# EAGLE library part AD9957 (library analog-devices)
AD9957 edit this description Auto generated by make-symbol-device-package-bsdl.ulp Rev. 44 Source: AD9957.txt
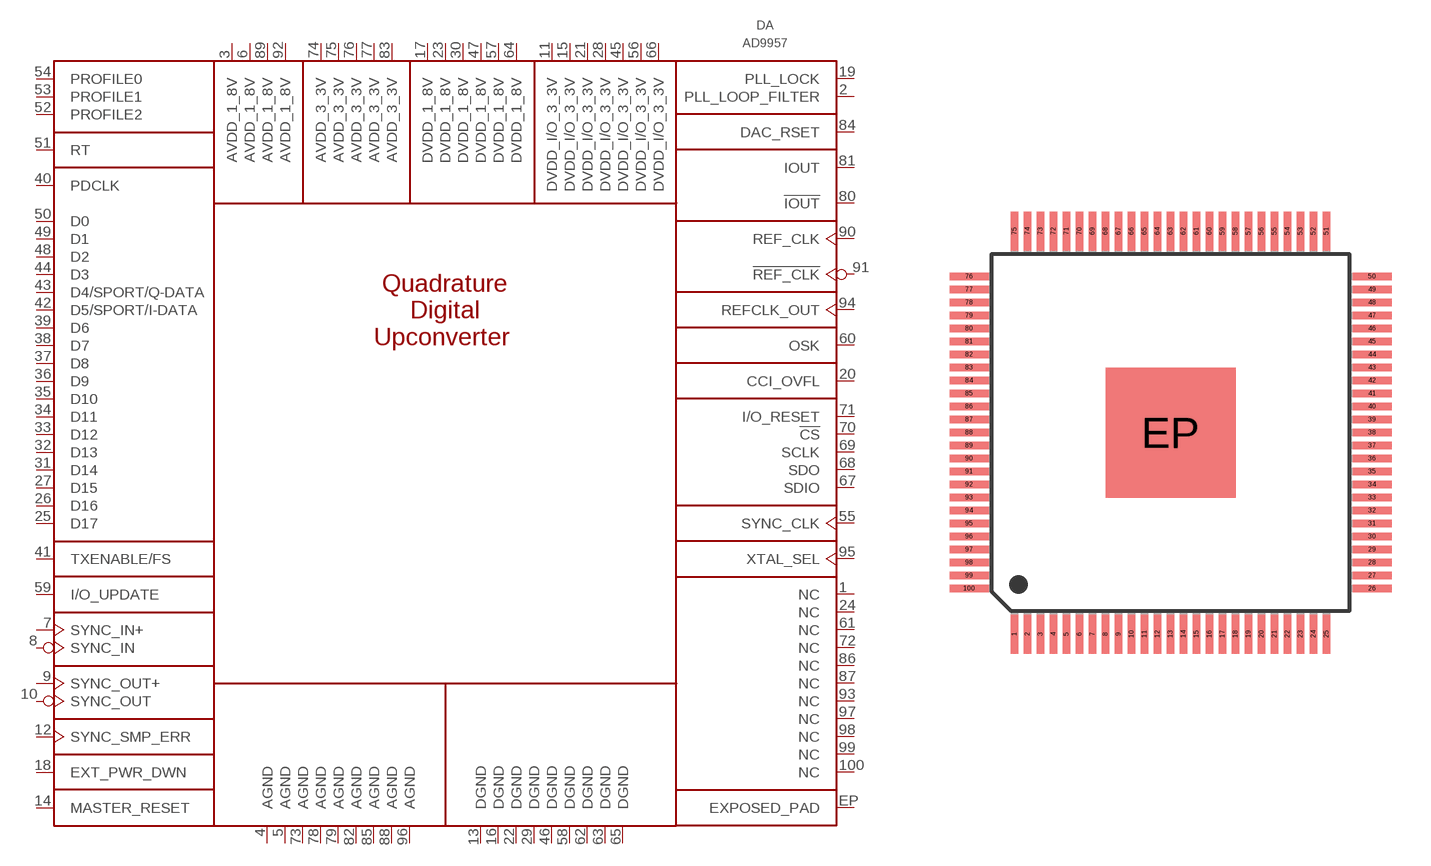
[diagram p28: symbol with the pads of TQFP100; footprint TQFP100]

Designator prefix DA

## AD9957BSVZ  [TQFP100]
1  NC  nc
2  PLL_LOOP_FILTER  in
3  AVDD_1_8V  pwr
4  AGND  pwr
5  AGND  pwr
6  AVDD_1_8V  pwr
7  SYNC_IN+  in
8  SYNC_IN  in
9  SYNC_OUT+  out
10  SYNC_OUT  out
11  DVDD_I/O_3_3V  pwr
12  SYNC_SMP_ERR  out
13  DGND  pwr
14  MASTER_RESET  in
15  DVDD_I/O_3_3V  pwr
16  DGND  pwr
17  DVDD_1_8V  pwr
18  EXT_PWR_DWN  in
19  PLL_LOCK  out
20  CCI_OVFL  out
21  DVDD_I/O_3_3V  pwr
22  DGND  pwr
23  DVDD_1_8V  pwr
24  NC  nc
25  D17
26  D16
27  D15
28  DVDD_I/O_3_3V  pwr
29  DGND  pwr
30  DVDD_1_8V  pwr
31  D14
32  D13
33  D12
34  D11
35  D10
36  D9
37  D8
38  D7
39  D6
40  PDCLK  out
41  TXENABLE/FS  in
42  D5/SPORT/I-DATA
43  D4/SPORT/Q-DATA
44  D3
45  DVDD_I/O_3_3V  pwr
46  DGND  pwr
47  DVDD_1_8V  pwr
48  D2
49  D1
50  D0
51  RT  in
52  PROFILE2  in
53  PROFILE1  in
54  PROFILE0  in
55  SYNC_CLK  out
56  DVDD_I/O_3_3V  pwr
57  DVDD_1_8V  pwr
58  DGND  pwr
59  I/O_UPDATE
60  OSK  in
61  NC  nc
62  DGND  pwr
63  DGND  pwr
64  DVDD_1_8V  pwr
65  DGND  pwr
66  DVDD_I/O_3_3V  pwr
67  SDIO
68  SDO  out
69  SCLK  in
70  !CS  in
71  I/O_RESET  in
72  NC  nc
73  AGND  pwr
74  AVDD_3_3V  pwr
75  AVDD_3_3V  pwr
76  AVDD_3_3V  pwr
77  AVDD_3_3V  pwr
78  AGND  pwr
79  AGND  pwr
80  !IOUT  out
81  IOUT  out
82  AGND  pwr
83  AVDD_3_3V  pwr
84  DAC_RSET  pas
85  AGND  pwr
86  NC  nc
87  NC  nc
88  AGND  pwr
89  AVDD_1_8V  pwr
90  REF_CLK  in
91  !REF_CLK  in
92  AVDD_1_8V  pwr
93  NC  nc
94  REFCLK_OUT  out
95  XTAL_SEL  in
96  AGND  pwr
97  NC  nc
98  NC  nc
99  NC  nc
100  NC  nc
EP  EXPOSED_PAD  pwr

## Footprint TQFP100 (pad centres in mm)
Thin Quad Flat Pack
smd 0.27 x 1.5: 1 -6,-7.75; 2 -5.5,-7.75; 3 -5,-7.75; 4 -4.5,-7.75; 5 -4,-7.75; 6 -3.5,-7.75; 7 -3,-7.75; 8 -2.5,-7.75; 9 -2,-7.75; 10 -1.5,-7.75; 11 -1,-7.75; 12 -0.5,-7.75; 13 0,-7.75; 14 0.5,-7.75; 15 1,-7.75; 16 1.5,-7.75; 17 2,-7.75; 18 2.5,-7.75; 19 3,-7.75; 20 3.5,-7.75; 21 4,-7.75; 22 4.5,-7.75; 23 5,-7.75; 24 5.5,-7.75; 25 6,-7.75; 51 6,7.75; 52 5.5,7.75; 53 5,7.75; 54 4.5,7.75; 55 4,7.75; 56 3.5,7.75; 57 3,7.75; 58 2.5,7.75; 59 2,7.75; 60 1.5,7.75; 61 1,7.75; 62 0.5,7.75; 63 0,7.75; 64 -0.5,7.75; 65 -1,7.75; 66 -1.5,7.75; 67 -2,7.75; 68 -2.5,7.75; 69 -3,7.75; 70 -3.5,7.75; 71 -4,7.75; 72 -4.5,7.75; 73 -5,7.75; 74 -5.5,7.75; 75 -6,7.75
smd 1.5 x 0.27: 26 7.75,-6; 27 7.75,-5.5; 28 7.75,-5; 29 7.75,-4.5; 30 7.75,-4; 31 7.75,-3.5; 32 7.75,-3; 33 7.75,-2.5; 34 7.75,-2; 35 7.75,-1.5; 36 7.75,-1; 37 7.75,-0.5; 38 7.75,0; 39 7.75,0.5; 40 7.75,1; 41 7.75,1.5; 42 7.75,2; 43 7.75,2.5; 44 7.75,3; 45 7.75,3.5; 46 7.75,4; 47 7.75,4.5; 48 7.75,5; 49 7.75,5.5; 50 7.75,6; 76 -7.75,6; 77 -7.75,5.5; 78 -7.75,5; 79 -7.75,4.5; 80 -7.75,4; 81 -7.75,3.5; 82 -7.75,3; 83 -7.75,2.5; 84 -7.75,2; 85 -7.75,1.5; 86 -7.75,1; 87 -7.75,0.5; 88 -7.75,0; 89 -7.75,-0.5; 90 -7.75,-1; 91 -7.75,-1.5; 92 -7.75,-2; 93 -7.75,-2.5; 94 -7.75,-3; 95 -7.75,-3.5; 96 -7.75,-4; 97 -7.75,-4.5; 98 -7.75,-5; 99 -7.75,-5.5; 100 -7.75,-6
smd 5 x 5: EP 0,0